# Altium schematic symbol library P822601.SchLib: 1 symbol
Pins are listed as number, name and electrical type; pins without a type are passive.

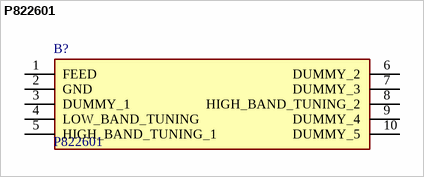
[diagram p0: symbol P822601]

## P822601
designator B?
AVX - P822601 - EMBEDDED ANTENNA, 1.7-2.7GHZ, 3.4DBI; Geometry.Height: 3.5mm; Mouser Part Number: 581-P822601; Mouser Price/Stock: https://www.mouser.co.uk/ProductDetail/AVX/P822601?qs=vdi0iO8H4N0igrTLYxGIXg%3D%3D; Manufacturer_Name: AVX; Manufacturer_Part_Number: P822601; Datasheet Link: http://datasheets.avx.com/ethertronics/AVX-E_P822601-P822602.pdf
footprint P822601
pins: 1 FEED, 2 GND, 3 DUMMY_1, 4 LOW_BAND_TUNING, 5 HIGH_BAND_TUNING_1, 6 DUMMY_2, 7 DUMMY_3, 8 HIGH_BAND_TUNING_2, 9 DUMMY_4, 10 DUMMY_5